# Altium integrated library components.IntLib: 15 symbols
Pins are listed as number, name and electrical type; pins without a type are passive.

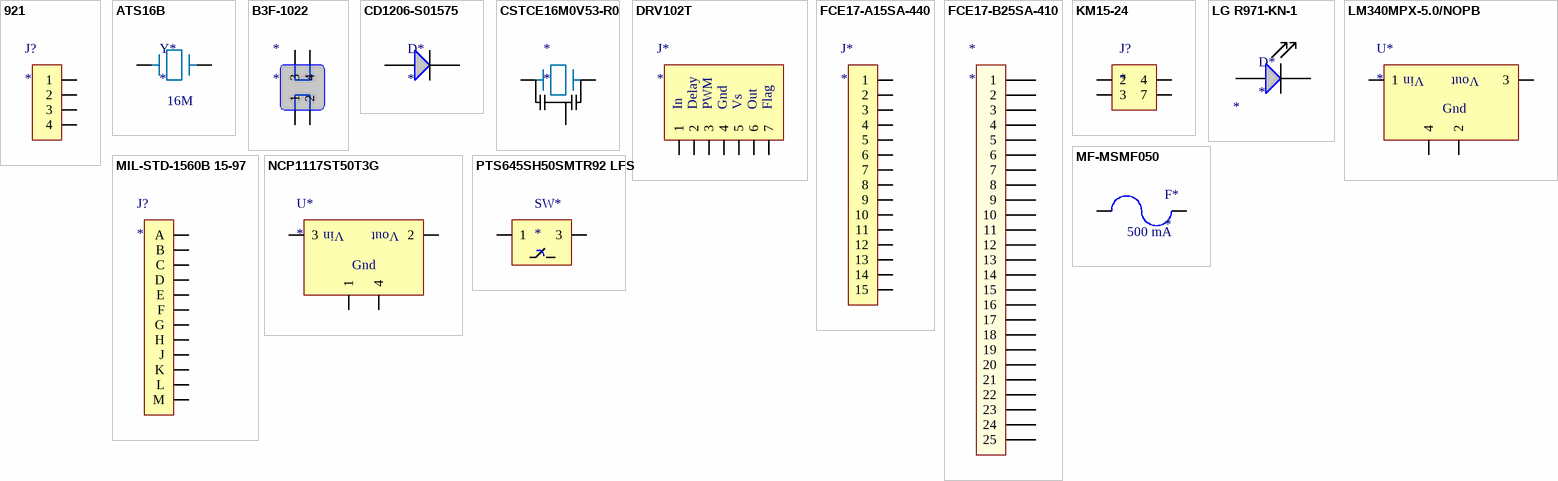
[diagram p0: symbols 921 to PTS645SH50SMTR92 LFS]

## 921
designator J?
Screw Terminal, 4 Pin
footprint 921 (USB A Socket)
pins: 1, 2, 3, 4

## ATS16B
designator Y*  Frequency: 16M
footprint ATS16B
pins: 1, 2

## B3F-1022
designator *
footprint B34-1022 (SPST-NO Tiny Switch)
pins: 1 "In", 2 "In", 3 "In", 4 "In"

## CD1206-S01575
designator D*
CD1206-S01575
footprint Model Name (Footprint not found)
footprint CD1206-S01575 (Diode)
pins: 1, 2

## CSTCE16M0V53-R0
designator *
footprint CSTCE16M0V53-R0 (CER RESONATOR 16.0MHZ SMD)
pins: 1, 2, 3

## DRV102T
designator J*
footprint DRV102T
pins: 1, 2 "In", 3 "In", 4 "In", 5 "In", 6 "In", 7 "In"
text: In; Delay; PWM; Gnd; Vs; Out; Flag

## FCE17-A15SA-440
designator J*
DB15 Header
footprint FCE17-A15SA-440 (DB15, Sockets, PCB Mount)
pins: 1, 2, 3, 4, 5, 6, 7, 8, 9, 10, 11, 12, 13, 14, 15

## FCE17-B25SA-410
designator *
DB25 Header
footprint FCE17-B25SA-410 (DB25, Sockets, PCB Mount)
pins: 1, 2, 3, 4, 5, 6, 7, 8, 9, 10, 11, 12, 13, 14, 15, 16, 17, 18, 19, 20, 21, 22, 23, 24, 25

## KM15-24
designator J?
85-260 Vac to 24 Vdc
footprint KM15-24
pins: 2, 3, 4, 7

## LG R971-KN-1
designator D*
LED, 0805; Color: *
footprint LG R971-KN-1 (LED Green, 0805)
pins: 1, 2

## LM340MPX-5.0/NOPB
designator U*
footprint LM340MPX-5.0/NOPB (JEDEC TO-261 Variation AA)
pins: 1, 2, 3, 4
text: Vin; Vout; Gnd

## MF-MSMF050
designator F*  value 500 mA
500 mA Fuse
footprint MF-MSMF050 (500 mA Fuse)
pins: 1, 2

## MIL-STD-1560B 15-97
designator J?
footprint MIL-STD-1560B 15-97 (Insert arrangement for MIL-STD-1560B 15-97)
pins: A, B, C, D, E, F, G, H, J, K, L, M

## NCP1117ST50T3G
designator U*
footprint LM340MPX-5.0/NOPB (JEDEC TO-261 Variation AA)
pins: 1, 2, 3, 4
text: Vin; Vout; Gnd

## PTS645SH50SMTR92 LFS
designator SW*
Tactile Switch
footprint PTS645SH50SMTR92 LFS (SWITCH TACTILE SPST-NO 0.05A 12V)
pins: 1, 3